# Altium integrated library Ceramic Capacitor.IntLib: 7 symbols
Pins are listed as number, name and electrical type; pins without a type are passive.

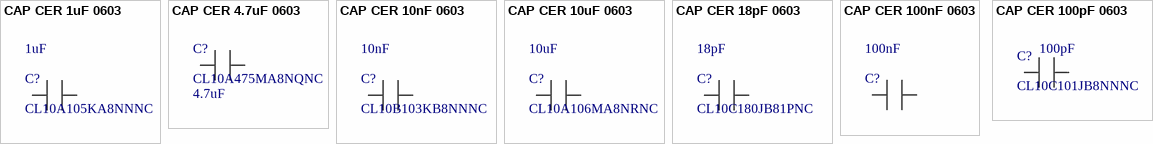
[diagram p0: symbols CAP CER 1uF 0603 to CAP CER 100pF 0603]

## CAP CER 1uF 0603
designator C?, comment CL10A105KA8NNNC  Capacitance: 1uF
Multilayer Ceramic Capacitor, 1 uF, 25 V, ± 10%, X5R, 0603 [1608 Metric]; Manufacturer: Samsung; Voltage Rating (DC): 25V; Designed: Ferdi; Supplier 1: Digi-Key; Manufacturer Part Number: CL10A105KA8NNNC; RoHS: Yes; Category: Ceramic Capacitors; Stock 1: 2549745; Pricing 1: 1=0,1, 10=0,03, 50=0,017, 100=0,0132, 500=0,0099, 1000=0,00778 (USD); Mount: Surface Mount; Case/Package: 0603; Case Code (Metric): 1608; Case Code (Imperial): 0603; Min Operating Temperature: -55°C; Max Operating Temperature: 85°C; Tolerance: 10%; Series: CL; Packaging: Tape and Reel; Voltage Rating: 25V; Length: 0.063inch; Width: 0.031inch; Thickness: 0.035inch; Lead Free: Lead Free; RoHS Compliant: Yes; ComponentLink1URL: https://datasheet.ciiva.com/25801/cl10a105ka8nnnc-25801364.pdf?src-supplier=Digi-Key; ComponentLink1Description: https://datasheet.ciiva.com/25801/cl10a105ka8nnnc-25801364.pdf?src-supplier=Digi-Key; ComponentLink2URL: https://datasheet.ciiva.com/26838/getdatasheetpartid-357530-26838332.pdf?src-supplier=Verical; ComponentLink2Description: https://datasheet.ciiva.com/26838/getdatasheetpartid-357530-26838332.pdf?src-supplier=Verical; ComponentLink3URL: https://datasheet.ciiva.com/29198/458162-da-01-en-vs-kondensator-0603-29198475.pdf?src-supplier=Conrad; ComponentLink3Description: https://datasheet.ciiva.com/29198/458162-da-01-en-vs-kondensator-0603-29198475.pdf?src-supplier=Conrad; Supplier Part Number 1: 1276-1102-1-ND
footprint C0603 (Capacıtor 0603)
pins: 1, 2

## CAP CER 4.7uF 0603
designator C?, comment CL10A475MA8NQNC  Capacitance: 4.7uF
Multilayer Ceramic Capacitor, 4.7 uF, 25 V, ± 20%, X5R, 0603 [1608 Metric]; Manufacturer: Samsung; Designed: Ferdi; Supplier 1: Digi-Key; Manufacturer Part Number: CL10A475MA8NQNC; RoHS: Yes; Category: Ceramic Capacitors; Stock 1: 1935692; Pricing 1: 1=0,27, 10=0,177, 50=0,1244, 100=0,1005, 500=0,07466, 1000=0,06533 (USD); ComponentLink1URL: https://datasheet.ciiva.com/25787/cl10a475ma8nqnc-25787184.pdf?src-supplier=Digi-Key; ComponentLink1Description: https://datasheet.ciiva.com/25787/cl10a475ma8nqnc-25787184.pdf?src-supplier=Digi-Key; ComponentLink2URL: https://datasheet.ciiva.com/16437/cl10a475ma8nqnc-16437322.pdf?src-supplier=Future+Electronics; ComponentLink2Description: https://datasheet.ciiva.com/16437/cl10a475ma8nqnc-16437322.pdf?src-supplier=Future+Electronics; Supplier Part Number 1: 1276-1903-1-ND
footprint C0603 (Capacıtor 0603)
pins: 1, 2

## CAP CER 10nF 0603
designator C?, comment CL10B103KB8NNNC  Capacitance: 10nF
Multilayer Ceramic Capacitor, 0.01 uF, 50 V, ± 10%, X7R, 0603 [1608 Metric]; Manufacturer: Samsung; Voltage: 50V; Designed: Ferdi; Supplier 1: Digi-Key; Manufacturer Part Number: CL10B103KB8NNNC; RoHS: Yes; Category: Ceramic Capacitors; Stock 1: 4978380; Pricing 1: 1=0,1, 10=0,023, 50=0,0134, 100=0,0104, 500=0,00784, 1000=0,00617 (USD); Mount: Surface Mount; Case/Package: 0603; Case Code (Metric): 1608; Case Code (Imperial): 0603; Material: Ceramic; Min Operating Temperature: -55°C; Max Operating Temperature: 125°C; Tolerance: 10%; Dielectric: X7R; Voltage Rating (DC): 50V; Voltage Rating: 50V; Package Quantity: 1; Packaging: Tape and Reel; Series: CL; Construction: Flat; Length: 1.6mm; Width: 0.031inch; Height: 0.8mm; Depth: 0.8mm; Thickness: 0.035inch; Radiation Hardening: No; Lead Free: Lead Free; RoHS Compliant: Yes; ComponentLink1URL: https://datasheet.ciiva.com/15195/getdatasheetpartid-357415-15195721.pdf?src-supplier=Verical; ComponentLink1Description: https://datasheet.ciiva.com/15195/getdatasheetpartid-357415-15195721.pdf?src-supplier=Verical; ComponentLink2URL: https://datasheet.ciiva.com/29198/457455-da-01-en-vs-kondensator-0603-29198644.pdf?src-supplier=Conrad; ComponentLink2Description: https://datasheet.ciiva.com/29198/457455-da-01-en-vs-kondensator-0603-29198644.pdf?src-supplier=Conrad; Supplier Part Number 1: 1276-1009-1-ND
footprint C0603 (Capacıtor 0603)
pins: 1, 2

## CAP CER 10uF 0603
designator C?, comment CL10A106MA8NRNC  Capacitance: 10uF
Multilayer Ceramic Capacitor, 10 uF, 25 V, ± 20%, X5R, 0603 [1608 Metric]; Manufacturer: Samsung; Material: 4241ConductorMaterial; Voltage Rating: 25V; igned: Ferdi; Supplier 1: Digi-Key; Manufacturer Part Number: CL10A106MA8NRNC; RoHS: Yes; Category: Ceramic Capacitors; Stock 1: 1241612; Pricing 1: 1=0,26, 10=0,17, 50=0,1196, 100=0,0966, 500=0,07178, 1000=0,0628 (USD); Mount: Surface Mount; Case/Package: 0603; Case Code (Metric): 1608; Case Code (Imperial): 0603; Min Operating Temperature: -55°C; Max Operating Temperature: 85°C; Packaging: Cut Tape; Tolerance: 20%; Series: CL; Height: 900um; Lead Free: Lead Free; RoHS Compliant: Yes; ComponentLink1URL: https://datasheet.ciiva.com/25766/cl10a106ma8nrnc-25766562.pdf?src-supplier=Digi-Key; ComponentLink1Description: https://datasheet.ciiva.com/25766/cl10a106ma8nrnc-25766562.pdf?src-supplier=Digi-Key; Supplier Part Number 1: 1276-1869-1-ND
footprint C0603 (Capacıtor 0603)
pins: 1, 2

## CAP CER 18pF 0603
designator C?, comment CL10C180JB81PNC  Capacitance: 18pF
Multilayer Ceramic Capacitor, 18 pF, 50 V, ± 5%, C0G (NP0), 0603 [1608 Metric]; Manufacturer: Samsung; Material: 4241ConductorMaterial; Voltage Rating: 50V; Temperature Coefficient: 30ppm/°C; Designed: Ferdi; Supplier 1: Digi-Key; Manufacturer Part Number: CL10C180JB81PNC; RoHS: Yes; Category: Ceramic Capacitors; Stock 1: 69155; Pricing 1: 1=0,1, 10=0,041, 50=0,0234, 100=0,0181, 500=0,0136, 1000=0,01069 (USD); Mount: Surface Mount; Case/Package: 0603; Case Code (Metric): 1608; Case Code (Imperial): 0603; Min Operating Temperature: -55°C; Max Operating Temperature: 125°C; Tolerance: 5%; Packaging: Tape and Reel; Dielectric: C0G; Series: CL; Length: 1.6mm; Depth: 0.8mm; Ratings: AEC-Q200; Radiation Hardening: No; Lead Free: Lead Free; RoHS Compliant: Yes; ComponentLink1URL: https://datasheet.ciiva.com/16209/cl10c180jb81pnc-16209341.pdf?src-supplier=Future+Electronics; ComponentLink1Description: https://datasheet.ciiva.com/16209/cl10c180jb81pnc-16209341.pdf?src-supplier=Future+Electronics; ComponentLink2URL: https://datasheet.ciiva.com/15195/getdatasheetpartid-357568-15195801.pdf?src-supplier=Verical; ComponentLink2Description: https://datasheet.ciiva.com/15195/getdatasheetpartid-357568-15195801.pdf?src-supplier=Verical; Supplier Part Number 1: 1276-2208-1-ND
footprint C0603 (Capacıtor 0603)
pins: 1, 2

## CAP CER 100nF 0603
designator C?, comment Capacitance: 100nF  (hidden comment: C0603C104K5RACTU)
Multilayer Ceramic Capacitor, 0.1 uF, 50 V, ± 10%, X7R, 0603 [1608 Metric]; Manufacturer: KEMET; Designed By: Ferdi Ayhan; Material: 4241ConductorMaterial; Voltage: 50V; Temperature Coefficient: 30ppm/°C; Supplier 1: Digi-Key; Manufacturer Part Number: C0603C104K5RACTU; RoHS: Yes; Category: Ceramic Capacitors; Stock 1: 6808655; Pricing 1: 1=0,1, 10=0,074, 50=0,0404, 100=0,0329, 500=0,02352, 1000=0,01848 (USD); Mount: Surface Mount; Case/Package: 0603; Min Operating Temperature: -55°C; Max Operating Temperature: 125°C; Tolerance: 10%; Packaging: Tape and Reel; Dielectric: X7R; Series: SMD Comm X7R; Voltage Rating: 50V; Length: 0.063inch; Width: 0.031inch; Thickness: 0.034inch; RoHS Compliant: Yes; Lead Free: 5697LeadFree; Supplier Part Number 1: 399-C0603C104K5RAC7867CT-ND
footprint C0603 (Capacıtor 0603)
pins: 1, 2

## CAP CER 100pF 0603
designator C?, comment CL10C101JB8NNNC  Capacitance: 100pF
Multilayer Ceramic Capacitor, 100 pF, 50 V, ± 5%, C0G (NP0), 0603 [1608 Metric]; Manufacturer: Samsung; Voltage: 50V; Temperature Coefficient: 300ppm/°C; Number of Channels: 1; Designed: Ferdi; Supplier 1: Digi-Key; Manufacturer Part Number: CL10C101JB8NNNC; RoHS: Yes; Category: Ceramic Capacitors; Stock 1: 654926; Pricing 1: 1=0,1, 10=0,026, 50=0,015, 100=0,0116, 500=0,00874, 1000=0,00686 (USD); Mount: Surface Mount; Case/Package: 0603; Case Code (Metric): 1608; Case Code (Imperial): 0603; Material: Ceramic; Min Operating Temperature: -55°C; Max Operating Temperature: 125°C; Tolerance: 5%; Dielectric: C0G; Voltage Rating (DC): 50V; Packaging: Tape and Reel; Voltage Rating: 50V; Series: CL; Construction: Flat; Length: 1.6mm; Height: 0.8mm; Depth: 0.8mm; Radiation Hardening: No; Lead Free: Lead Free; RoHS Compliant: Yes; ComponentLink1URL: https://datasheet.ciiva.com/25782/cl10c101jb8nnnc-25782145.pdf?src-supplier=Digi-Key; ComponentLink1Description: https://datasheet.ciiva.com/25782/cl10c101jb8nnnc-25782145.pdf?src-supplier=Digi-Key; ComponentLink2URL: https://datasheet.ciiva.com/26838/getdatasheetpartid-358356-26838483.pdf?src-supplier=Verical; ComponentLink2Description: https://datasheet.ciiva.com/26838/getdatasheetpartid-358356-26838483.pdf?src-supplier=Verical; ComponentLink3URL: https://datasheet.ciiva.com/29199/456574-da-01-en-vs-kondensator-0603-29199002.pdf?src-supplier=Conrad; ComponentLink3Description: https://datasheet.ciiva.com/29199/456574-da-01-en-vs-kondensator-0603-29199002.pdf?src-supplier=Conrad; ComponentLink4URL: https://datasheet.ciiva.com/26310/mlcc-catalogdownload2013-eng-26310303.pdf?src-supplier=Distrelec; ComponentLink4Description: https://datasheet.ciiva.com/26310/mlcc-catalogdownload2013-eng-26310303.pdf?src-supplier=Distrelec; Supplier Part Number 1: 1276-1008-1-ND
footprint C0603 (Capacıtor 0603)
pins: 1, 2